# Altium footprint library PO_SS_Lib.PcbLib: 41 footprints (part 3 of 3)
Each footprint in its own frame and in the unit in brackets; x right, y up, seen from the top. Pads: shape width x height; smd on the part's side, far side on the other; paste and mask are expansions set on the pad; w line width, h text height; cw(c..) or ccw(c..) is an arc to the next point about the centre after c.
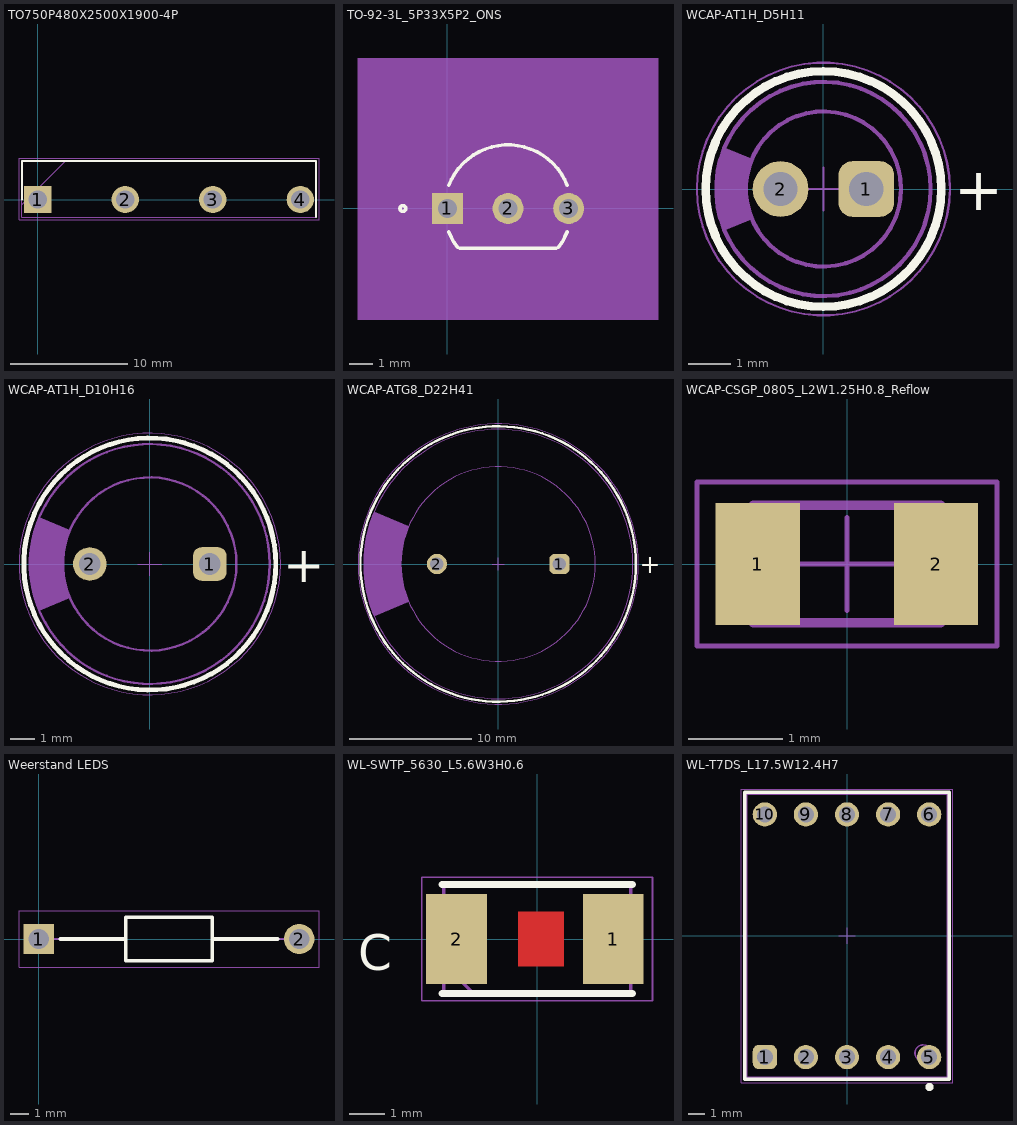
[diagram p2: the footprints below, top view; thin cyan lines are the x and y axes]

## TO750P480X2500X1900-4P [mm]
pads (4):
  rect 2.34x2.34 hole 1.56: 1(0,0)
  round 2.34 hole 1.56: 2(7.5,0) 3(15,0) 4(22.5,0)
Top Overlay:
  lines w0.2: -1.35,0 -1.35,3.3 23.85,3.3 23.85,-1.5
Mechanical 13:
  lines w0.1: -1.35,-0.45 2.4,3.3 ; -1.35,-1.5 -1.35,3.3 23.85,3.3 23.85,-1.5 -1.35,-1.5
Mechanical 15:
  lines w0.05: -1.6,-1.75 -1.6,3.55 24.1,3.55 24.1,-1.75 -1.6,-1.75
3D body "KBJ608G.stp": height 18.5, standoff -30, extent -1.25,-1.5 23.75,3.3

## TO-92-3L_5P33X5P2_ONS [mil]
pads (3):
  rect 52x52 hole 32 mask+0: 1(0,0)
  round 52 hole 32 mask+0: 2(102.36,0) 3(204.72,0)
Top Overlay:
  circle w6: c-75.14,0 r5
  lines w6: 2.23,-39.1 ccw(c102.36,0) 17.16,-65.55 ; 2.23,39.1 cw(c102.36,0) 202.52,39.04 ; 21.12,-67.5 183.6,-67.5 ; 187.57,-65.55 ccw(c102.36,0) 202.52,-39.04
Mechanical 5:
  region: -151,253.36 355.72,253.36 355.72,-187.5 -151,-187.5
Mechanical 13:
  circle w0: c9.86,0 r5
  lines w0: 21.12,-62.5 cw(c102.36,0) 183.6,-62.5
  lines w1: 21.12,-62.5 183.6,-62.5
  lines w6: -10,0 10,0 ; 0,-10 0,10
Mechanical 15:
  region: 240.72,-72.5 -36,-72.5 -36,138.36 240.72,138.36
  lines w6: -36,-72.5 240.72,-72.5 240.72,138.36 -36,138.36 -36,-72.5
3D body "TO-92-3L_5P33X5P2_ONS.step": height 210, standoff -235, extent -10.98,-42.52 215.71,102.5
3D body "TO-92-3L_5P33X5P2_ONS.step": height 210, standoff -235, extent -10.98,-42.52 215.71,102.5

## WCAP-AT1H_D5H11 [mm] "Aluminium Electrolytic Radial THD Capacitors, 5x11mm"
height 11
pads (2):
  rrect50% 1.3x1.3 hole 0.8: 1(1,0)
  round 1.3 hole 0.8: 2(-1,0)
Top Overlay:
  circle w0.2: c0,0 r2.75
  text "+" at 3.05,-0.5 h1
Top Assembly:
  circle w0.1: c0,0 r1.81
  circle w0.1: c0,0 r2.5
  region: -2.305,-0.968 -1.668,-0.702 -1.669,-0.701 -1.73,-0.532 -1.801,-0.18 -1.801,0.18 -1.73,0.532 -1.669,0.701 -1.668,0.702 -2.305,0.968 -2.402,0.738 -2.5,0.249 -2.5,-0.249 -2.402,-0.738
  text ".Designator" at -2,-0.6 h1.2
Mechanical 15:
  circle w0.05: c0,0 r2.95
  lines w0.05: -0.5,0 0.5,0 ; 0,-0.5 0,0.5
3D body "5x11x2x0.5.stp": height 11.26, standoff -19.96, extent -2.49,-2.5 2.5,2.5

## WCAP-AT1H_D10H16 [mm] "Aluminium Electrolytic Radial THD Capacitors, 10x16mm"
height 16
pads (2):
  rrect50% 1.4x1.4 hole 0.9: 1(2.5,0)
  round 1.4 hole 0.9: 2(-2.5,0)
Top Overlay:
  circle w0.2: c0,0 r5.25
  text "+" at 5.55,-0.75 h1.5
Top Assembly:
  circle w0.1: c0,0 r5
  circle w0.1: c0,0 r3.61
  region: -4.607,-1.944 -3.323,-1.41 -3.324,-1.409 -3.39,-1.24 -3.497,-0.895 -3.569,-0.541 -3.605,-0.181 -3.605,0.181 -3.569,0.541 -3.497,0.895 -3.39,1.24 -3.324,1.409 -3.323,1.41 -4.607,1.944 -4.704,1.714 -4.851,1.237 -4.95,0.747 -5,0.25 -5,-0.25 -4.95,-0.747 -4.851,-1.237 -4.704,-1.714
  text ".Designator" at -2.5,-0.75 h1.5
Mechanical 15:
  circle w0.05: c0,0 r5.45
  lines w0.05: -0.5,0 0.5,0 ; 0,-0.5 0,0.5
3D body "10x16x5x0.6.stp": height 16.26, standoff -19.96, extent -4.99,-5 5,4.999

## WCAP-ATG8_D22H41 [mm] "Aluminum Electrolytic Capacitors, 22x41mm"
height 41
pads (2):
  rrect50% 1.65x1.65 hole 1.1: 1(5,0)
  round 1.65 hole 1.1: 2(-5,0)
Top Overlay:
  circle w0.2: c0,0 r11.25
  text "+" at 11.55,-0.75 h1.5
Top Assembly:
  circle w0.1: c0,0 r11
  circle w0.1: c0,0 r7.94
  region: -10.135,-4.275 -7.31,-3.099 -7.312,-3.094 -7.458,-2.725 -7.693,-1.966 -7.851,-1.187 -7.93,-0.397 -7.93,0.397 -7.851,1.187 -7.693,1.966 -7.458,2.725 -7.312,3.094 -7.31,3.099 -10.135,4.275 -10.277,3.938 -10.517,3.246 -10.709,2.54 -10.854,1.822 -10.951,1.097 -11,0.366 -11,-0.366 -10.951,-1.097 -10.854,-1.822 -10.709,-2.54 -10.517,-3.246 -10.277,-3.938
  text ".Designator" at -2.5,-0.75 h1.5
Mechanical 15:
  circle w0.05: c0,0 r11.45
  lines w0.05: -0.5,0 0.5,0 ; 0,-0.5 0,0.5
3D body "22x41x10x0.8.stp": height 41.31, standoff -19.91, extent -10.99,-11 11,10.996

## WCAP-CSGP_0805_L2W1.25H0.8_Reflow [mm] "Ceramic Capacitors, body 2x1.25mm"
height 0.9
pads (2):
  rect 0.9x1.3 smd: 1(-0.95,0) 2(0.95,0)
Top 3D Body:
  lines w0.1: -1,-0.625 1,-0.625 1,0.625 -1,0.625 -1,-0.625
Top Courtyard:
  lines w0.05: -0.5,0 0.5,0 ; 0,-0.5 0,0.5 ; -1.6,-0.875 1.6,-0.875 1.6,0.875 -1.6,0.875 -1.6,-0.875
Top Assembly:
  lines w0.1: -1,-0.625 -1,0.625 1,0.625 1,-0.625 -1,-0.625
  text ".Designator" at -3.499,-0.233 h0.7
3D body "CAPC2012X08N.step": height 0.8, standoff 0, extent -1,-0.625 1,0.625

## Weerstand LEDS [mm]
pads (2):
  rect 1.65x1.65 hole 1.1: 1(0,0)
  round 1.65 hole 1.1: 2(14.1,0)
Top Overlay:
  lines w0.2: 1.175,0 4.7,0 ; 9.4,0 12.925,0 ; 4.7,-1.175 9.4,-1.175 9.4,1.175 4.7,1.175 4.7,-1.175
Mechanical 13:
  lines w0.1: 0,0 4.7,0 ; 9.4,0 14.1,0 ; 4.7,-1.175 9.4,-1.175 9.4,1.175 4.7,1.175 4.7,-1.175
Mechanical 15:
  lines w0.05: -1.075,-1.525 15.175,-1.525 15.175,1.525 -1.075,1.525 -1.075,-1.525
3D body "1N4007-B.stp": height 2.69, standoff -2.7, extent -0.446,-1.347 14.55,1.347

## WL-SWTP_5630_L5.6W3H0.6 [mil] "SMD White Top view PLCC, body 5.6x3mm"
height 23.62
pads (2):
  rect 68x100 smd: 1(85,0) 2(-90,0)
Top Layer:
  region: -21.22,-30.51 -21.22,30.51 30,30.51 30,-30.51
Top Overlay:
  lines w7.87: -106.3,-61.02 106.3,-61.02 ; -106.3,61.02 106.3,61.02
  text "C" at -200,-35 h39.37
Top 3D Body:
  lines w3.94: -104.33,-27.56 -72.83,-59.06 ; -104.33,-59.06 104.33,-59.06 104.33,59.06 -104.33,59.06 -104.33,-59.06
Top Courtyard:
  lines w1.97: 0,-19.68 0,19.68 ; -128.94,-68.9 128.94,-68.9 128.94,68.9 -128.94,68.9 -128.94,-68.9
Top Assembly:
  lines w3.94: -104.33,-27.56 -72.83,-59.06 ; -104.33,-59.06 -104.33,59.06 104.33,59.06 104.33,-59.06 -104.33,-59.06
3D body "1585632xxA.stp": height 23.62, standoff 0, extent -110.23,-59.05 110.24,59.06

## WL-T7DS_L17.5W12.4H7 [mm] "7 Segments Display THT Single Digit , body 12.4x17.5mm"
height 7.25
pads (10):
  rrect50% 1.5x1.5 hole 1: 1(-5.08,-7.5)
  round 1.5 hole 1: 2(-2.54,-7.5) 3(0,-7.5) 4(2.54,-7.5) 5(5.08,-7.5) 6(5.08,7.5) 7(2.54,7.5) 8(0,7.5) 9(-2.54,7.5) 10(-5.08,7.5)
Top Overlay:
  circle w0.25: c5.1,-9.35 r0.125
  lines w0.2: -6.325,-8.875 6.325,-8.875 6.325,8.875 -6.325,8.875 -6.325,-8.875
Top 3D Body:
  circle w0.1: c4.7,-7.25 r0.5
  lines w0.1: -6.2,-8.75 6.2,-8.75 6.2,8.75 -6.2,8.75 -6.2,-8.75
Top Courtyard:
  lines w0.05: -0.5,0 0.5,0 ; 0,-0.5 0,0.5 ; -6.525,-9.075 6.525,-9.075 6.525,9.075 -6.525,9.075 -6.525,-9.075
Top Assembly:
  circle w0.1: c4.7,-7.25 r0.5
  lines w0.1: -6.2,-8.75 6.2,-8.75 6.2,8.75 -6.2,8.75 -6.2,-8.75
  text ".Designator" at -7.498,-0.5 h1.5
3D body "STP_WL-T7DS_0_52 (rev1).stp": height 7.1, standoff -4.2, extent -6.2,-8.75 6.2,8.75